# Altium integrated library H3LIS331DLTR.IntLib: 1 symbol
Pins are listed as number, name and electrical type; pins without a type are passive.

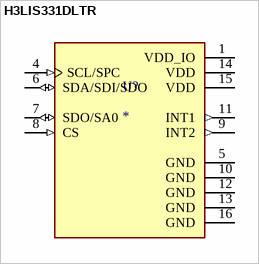
[diagram p0: symbol H3LIS331DLTR]

## H3LIS331DLTR
designator U?
Accelerometer X, Y, Z Axis Â±100g, Â±200g, Â±400g 25Hz ~ 500Hz 16-TFLGA (3x3); MF: STMicroelectronics; MP: H3LIS331DLTR; Value: *; Price: None; Availability: In Stock; SnapEDA_Link: https://www.snapeda.com/parts/H3LIS331DLTR/STMicroelectronics/view-part/?ref=snap; Check_prices: https://www.snapeda.com/parts/H3LIS331DLTR/STMicroelectronics/view-part/?ref=eda; Purchase-URL: https://pricing.snapeda.com/search/part/H3LIS331DLTR/?ref=eda; Package: TFLGA-16 STMicroelectronics
footprint QFN300X300X100-16N
pins: 1 VDD_IO (power), 4 SCL/SPC (in), 5 GND (power), 6 SDA/SDI/SDO (io), 7 SDO/SA0 (io), 8 CS (in), 9 INT2 (out), 10 GND (power), 11 INT1 (out), 12 GND (power), 13 GND (power), 14 VDD (power), 15 VDD (power), 16 GND (power)